# EAGLE library part SRV05-4L-TP (library SRV05-4L-TP)
ESD Suppressors 5V, 2.0uA 5V, 2.0uA Source: Datasheet <http://www.mccsemi.com/up_pdf/SRV05-4L(SOT23-6L).pdf>
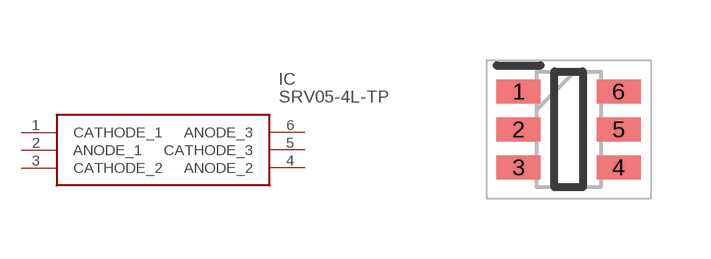
[diagram p0: symbol with the pads of SOT95P280X130-6N; footprint SOT95P280X130-6N]

Designator prefix IC

## SRV05-4L-TP (Description: ESD Suppressors 5V, 2.0uA 5V, 2.0uA; Height: 1.3mm; Manufacturer_Name: Micro Commercial Components (MCC); Manufacturer_Part_Number: SRV05-4L-TP; Mouser_Part_Number: 833-SRV05-4L-TP; Mouser_Price-Stock: https://www.mouser.co.uk/ProductDetail/Micro-Commercial-Components-MCC/SRV05-4L-TP?qs=SdqRYZZ9IxD6En634ibvWA%3D%3D)  [SOT95P280X130-6N]
1  CATHODE_1
2  ANODE_1
3  CATHODE_2
4  ANODE_2
5  CATHODE_3
6  ANODE_3

## Footprint SOT95P280X130-6N (pad centres in mm)
SOT23-6L
smd 1.1 x 0.6: 1 -1.25,0.95; 2 -1.25,0; 3 -1.25,-0.95; 4 1.25,-0.95; 5 1.25,0; 6 1.25,0.95